# Altium footprint library PCB - LEADED - SOT65P210X110-5N.PCBLIB: 1 footprints
Each footprint in its own frame and in the unit in brackets; x right, y up, seen from the top. Pads: shape width x height; smd on the part's side, far side on the other; paste and mask are expansions set on the pad; w line width, h text height; cw(c..) or ccw(c..) is an arc to the next point about the centre after c.
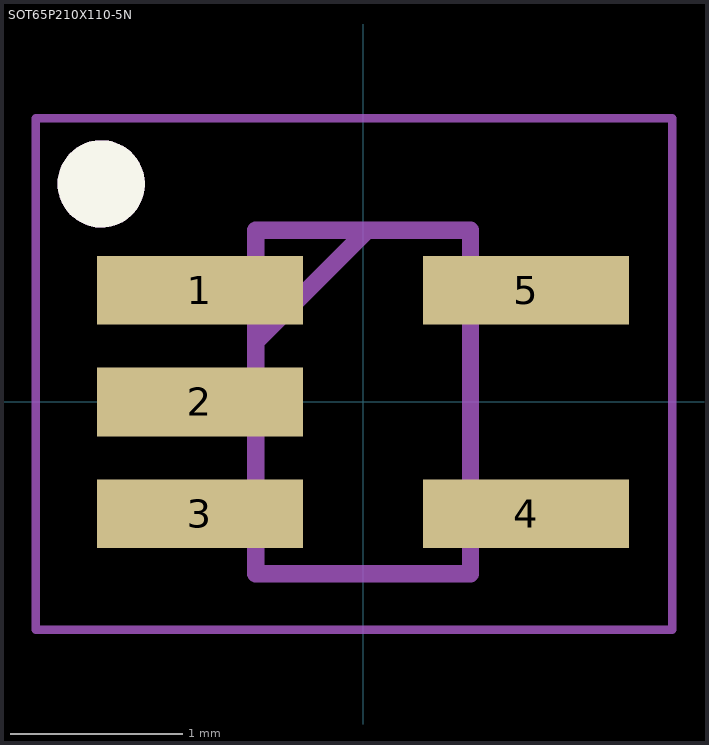
[diagram p0: the footprint, top view; thin cyan lines are the x and y axes]

## SOT65P210X110-5N [mm]
pads (5):
  rect 1.2x0.4 smd: 1(-0.95,0.65) 2(-0.95,0) 3(-0.95,-0.65) 4(0.95,-0.65) 5(0.95,0.65)
Top Overlay:
  circle w0.254: c-1.524,1.27 r0.127
Top Assembly:
  circle w0.254: c-1.524,1.27 r0.127
  lines w0.1: -0.625,0.35 0.025,1 ; -0.625,-1 0.625,-1 0.625,1 -0.625,1 -0.625,-1
Top Courtyard:
  lines w0.05: -1.905,-1.325 1.8,-1.325 1.8,1.651 -1.905,1.651 -1.905,-1.325
Top Designator:
  text ".Designator" at -1.778,2.921 h1
Top Value (Mech13):
  text ".Comment" at -1.778,2.032 h1
3D body "SN74LVC1G04DCKR.stp": height 1.1, standoff 0, extent -1.05,-1 1.05,1